# Altium footprint library PCBx.PcbLib: 24 footprints (part 1 of 2)
Each footprint in its own frame and in the unit in brackets; x right, y up, seen from the top. Pads: shape width x height; smd on the part's side, far side on the other; paste and mask are expansions set on the pad; w line width, h text height; cw(c..) or ccw(c..) is an arc to the next point about the centre after c.
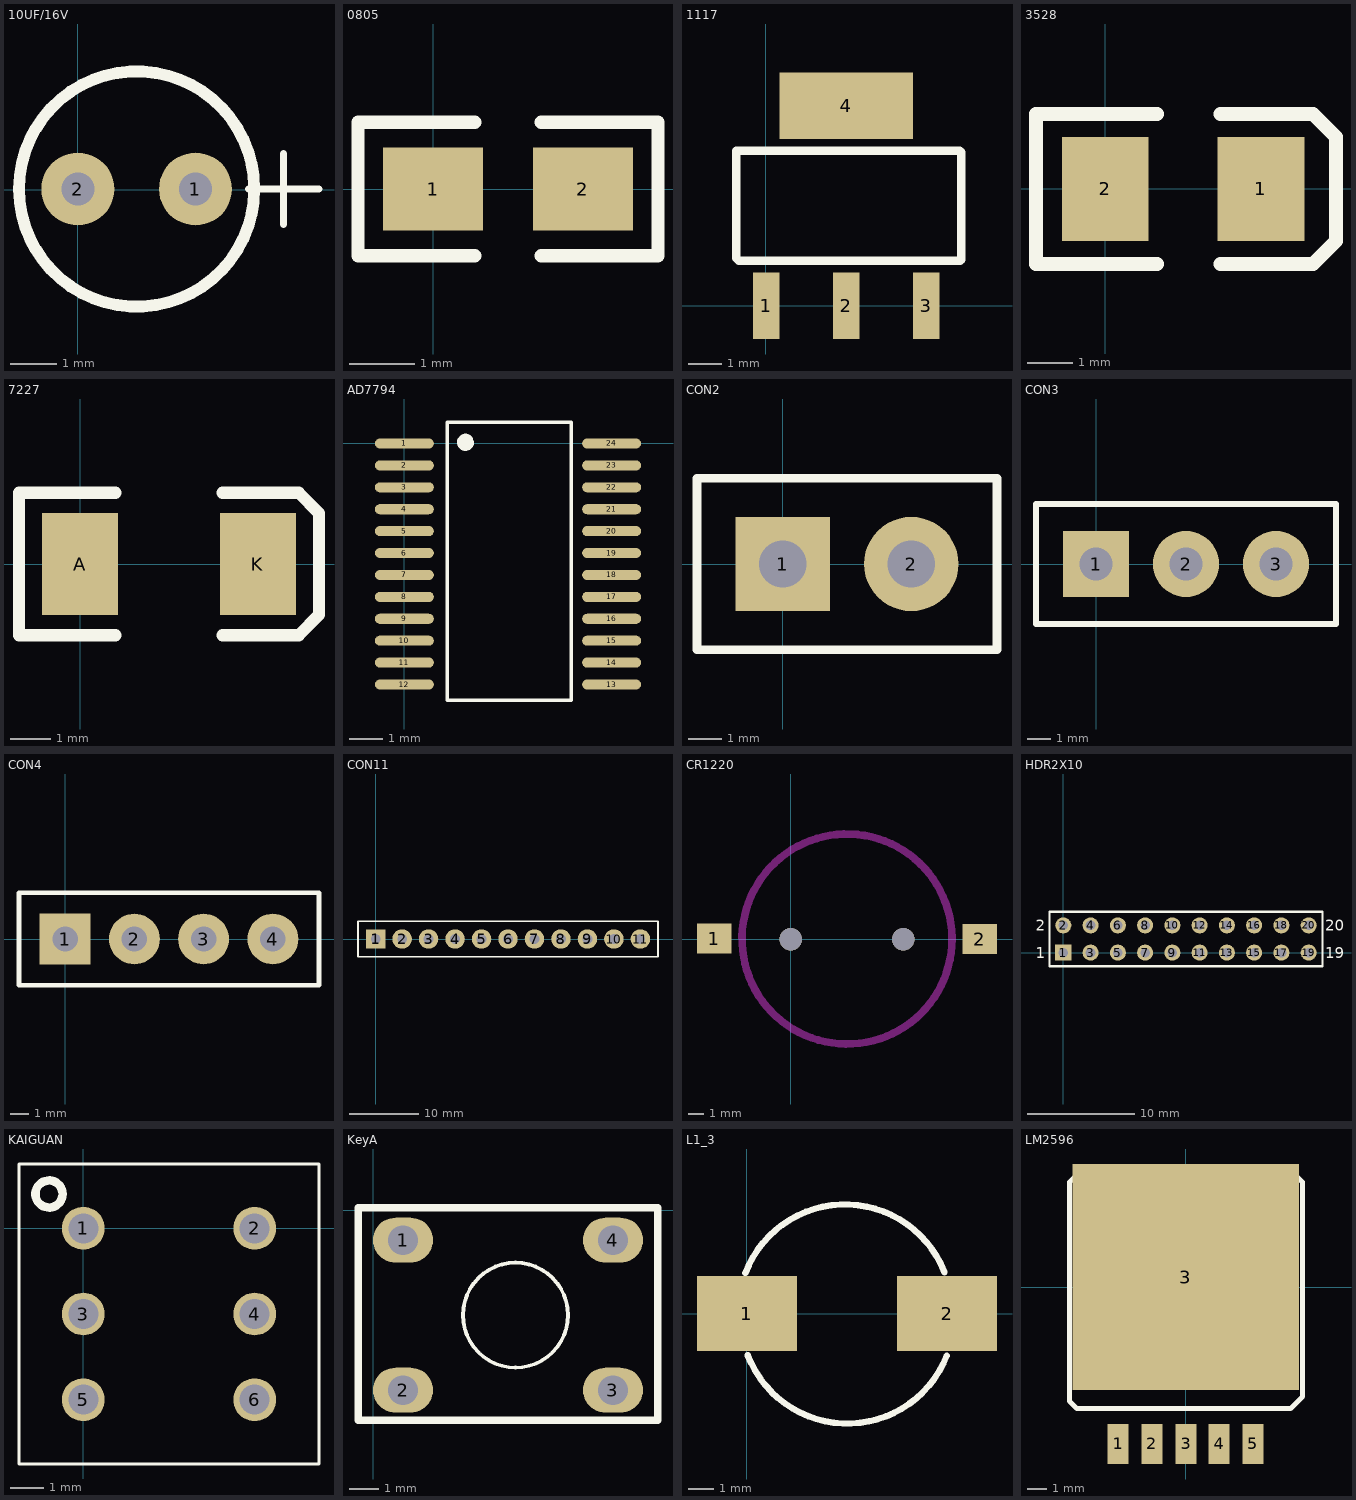
[diagram p0: the footprints below, top view; thin cyan lines are the x and y axes]

## 10UF/16V [mil]
pads (2):
  round 62 hole 28: 1(100.23,0.48) 2(0.23,0.48)
Top Overlay:
  circle w10: c50.23,0.48 r100
  lines w6: 145.23,0.48 205.23,0.48 ; 175.23,-29.52 175.23,30.48

## 0805 [mil]
pads (2):
  rect 60x50 smd: 1(0,0) 2(90,0)
Top Overlay:
  lines w8: 25,-40 -45,-40 -45,40 25,40 ; 65,-40 135,-40 135,40 65,40

## 1117 [mm]
pads (4):
  rect 0.8x2 smd: 1(0.009,-0.004) 2(2.409,-0.004) 3(4.809,-0.004)
  rect 4x2 smd: 4(2.409,5.996)
Top Overlay:
  lines w0.254: -0.893,1.424 -0.893,4.65 5.813,4.65 5.864,4.599 5.864,1.373 5.838,1.348 -0.817,1.348 -0.893,1.424

## 3528 [mil]
pads (2):
  rect 75x90 smd: 1(135,0) 2(0,0)
Top Overlay:
  lines w12: 45,-65 -60,-65 -60,65 45,65 ; 100,-65 180,-65 200,-45 200,45 180,65 100,65

## 7227 [mm]
pads (2):
  rect 1.905x2.54 smd: A(0,0) K(4.445,0)
Top Overlay:
  lines w0.305: 0.889,-1.778 -1.524,-1.778 -1.524,1.778 0.889,1.778 ; 3.556,-1.778 5.461,-1.778 5.969,-1.27 5.969,1.27 5.461,1.778 3.556,1.778

## AD7794 [mm]
pads (24):
  oval 1.75x0.3 smd: 1(0,0) 2(0,-0.65) 3(0,-1.3) 4(0,-1.95) 5(0,-2.6) 6(0,-3.25) 7(0,-3.9) 8(0,-4.55) 9(0,-5.2) 10(0,-5.85) 11(0,-6.5) 12(0,-7.15) 13(6.15,-7.15) 14(6.15,-6.5) 15(6.15,-5.85) 16(6.15,-5.2) 17(6.15,-4.55) 18(6.15,-3.9) 19(6.15,-3.25) 20(6.15,-2.6) 21(6.15,-1.95) 22(6.15,-1.3) 23(6.15,-0.65) 24(6.15,0)
Top Overlay:
  lines w0.102: 1.27,-7.62 4.953,-7.62 4.953,0.635 1.27,0.635 1.27,-7.62
  lines w0.254: 1.905,0.127 ccw(c1.815,0.037) 1.942,0.037

## CON2 [mm]
pads (2):
  rect 2.8x2.8 hole 1.4: 1(0,0)
  round 2.8 hole 1.4: 2(3.81,0)
Top Overlay:
  lines w0.254: -2.54,-2.54 -2.54,2.54 6.35,2.54 6.35,-2.54 -2.54,-2.54

## CON3 [mm]
pads (3):
  rect 2.8x2.8 hole 1.4: 1(0,0)
  round 2.8 hole 1.4: 2(3.81,0) 3(7.62,0)
Top Overlay:
  lines w0.254: -2.54,-2.54 -2.54,2.54 10.16,2.54 10.16,-2.54 -2.54,-2.54

## CON4 [mm]
pads (4):
  rect 2.8x2.8 hole 1.4: 1(0,0)
  round 2.8 hole 1.4: 2(3.81,0) 3(7.62,0) 4(11.43,0)
Top Overlay:
  lines w0.254: -2.54,-2.54 -2.54,2.54 13.97,2.54 13.97,-2.54 -2.54,-2.54

## CON11 [mm]
pads (11):
  rect 2.8x2.8 hole 1.4: 1(0,0)
  round 2.8 hole 1.4: 2(3.81,0) 3(7.62,0) 4(11.43,0) 5(15.24,0) 6(19.05,0) 7(22.86,0) 8(26.67,0) 9(30.48,0) 10(34.29,0) 11(38.1,0)
Top Overlay:
  lines w0.254: -2.54,-2.54 40.64,-2.54 40.64,2.54 -2.54,2.54 -2.54,-2.54

## CR1220 [mm]
pads (2):
  rect 2.3x2 smd: 1(-5.1,0.025) 2(12.6,0)
via 7.5,0 diameter 1.5 hole 1.5
via 0,0 diameter 1.5 hole 1.5
Keep-Out Layer:
  lines w0.508: 10.749,0.121 ccw(c3.75,0) 10.75,0

## HDR2X10 [mm]
pads (20):
  rect 1.5x1.5 hole 0.9: 1(0,0)
  round 1.5 hole 0.9: 2(0,2.54) 3(2.54,0) 4(2.54,2.54) 5(5.08,0) 6(5.08,2.54) 7(7.62,0) 8(7.62,2.54) 9(10.16,0) 10(10.16,2.54) 11(12.7,0) 12(12.7,2.54) 13(15.24,0) 14(15.24,2.54) 15(17.78,0) 16(17.78,2.54) 17(20.32,0) 18(20.32,2.54) 19(22.86,0) 20(22.86,2.54)
Top Overlay:
  lines w0.2: -1.27,-1.27 -1.27,3.81 0.635,3.81 24.13,3.81 24.13,-1.27 0.635,-1.27 -1.27,-1.27
  text "2" at -2.54,2.032 h1.02
  text "1" at -2.54,-0.508 h1.02
  text "19" at 24.384,-0.508 h1.02
  text "20" at 24.384,2.032 h1.02

## KAIGUAN [mil]
pads (6):
  round 50 hole 35: 1(0,0) 2(200,0) 3(0,-100) 4(200,-100) 5(0,-200) 6(200,-200)
Top Overlay:
  circle w10: c-40,40 r15.81
  lines w3.94: -75,-275 275,-275 275,75 -75,75 -75,-275

## KeyA [mil]
pads (4):
  oval 80x60 hole 39.37: 1(40,-40) 2(40,-240) 3(320,-240) 4(320,-40)
Top Overlay:
  circle w5: c190,-140 r70
  lines w10: -20,-280 140,-280 380,-280 380,-240 380,2.99 371.02,2.99 8.82,2.99 -20,2.99 -20,0 -20,-240 -20,-280

## L1_3 [mm]
pads (2):
  rect 4x3 smd: 1(0.013,-0.003) 2(8.013,-0.003)
Top Overlay:
  lines w0.254: -0.053,1.621 cw(c3.935,0.097) 7.912,1.648 ; 0.038,-1.654 ccw(c4.027,-0.13) 8.005,-1.681

## LM2596 [mil]
pads (6):
  rect 42x80 smd: 1(-134.5,-312.1) 2(-67.5,-312.1) 3(0.5,-312.1) 4(66.5,-312.1) 5(133.5,-312.1)
  rect 450x450 smd: 3(0,20)
Top Overlay:
  lines w10: -231.5,-227.09 -216.5,-242.09 208.5,-242.09 232.5,-218.09 232.5,208.91 210.5,230.91 -209.5,230.91 -231.5,208.91 -231.5,-227.09